# Altium footprint library MOD_LAUNCHXL-F28379D.PcbLib: 1 footprints
Each footprint in its own frame and in the unit in brackets; x right, y up, seen from the top. Pads: shape width x height; smd on the part's side, far side on the other; paste and mask are expansions set on the pad; w line width, h text height; cw(c..) or ccw(c..) is an arc to the next point about the centre after c.
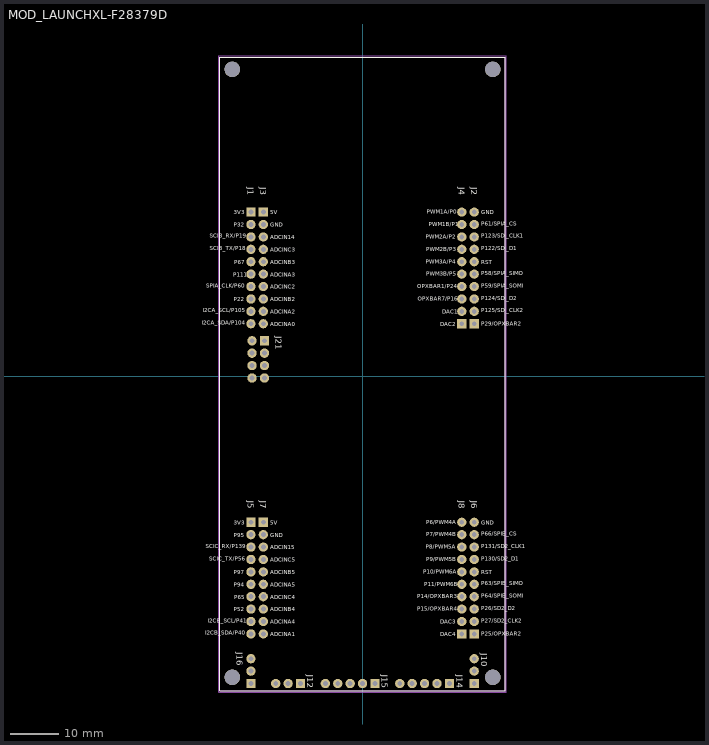
[diagram p0: the footprint, top view; thin cyan lines are the x and y axes]

## MOD_LAUNCHXL-F28379D [mm]
pads (111):
  rect 1.9x1.9 hole 1: J1_1(-22.86,33.655) J2_1(22.86,10.795) J3_1(-20.32,33.655) J4_1(20.32,10.795) J5_1(-22.86,-29.845) J6_1(22.86,-52.705) J7_1(-20.32,-29.845) J8_1(20.32,-52.705) J10_1(22.86,-62.865) J12_1(-12.7,-62.865) J14_1(17.78,-62.865) J15_1(2.54,-62.865) J16_1(-22.86,-62.865) J21_1(-20.086,7.311)
  round 1.9 hole 1: J1_2(-22.86,31.115) J1_3(-22.86,28.575) J1_4(-22.86,26.035) J1_5(-22.86,23.495) J1_6(-22.86,20.955) J1_7(-22.86,18.415) J1_8(-22.86,15.875) J1_9(-22.86,13.335) J1_10(-22.86,10.795) J2_2(22.86,13.335) J2_3(22.86,15.875) J2_4(22.86,18.415) J2_5(22.86,20.955) J2_6(22.86,23.495) J2_7(22.86,26.035) J2_8(22.86,28.575) J2_9(22.86,31.115) J2_10(22.86,33.655) J3_2(-20.32,31.115) J3_3(-20.32,28.575) J3_4(-20.32,26.035) J3_5(-20.32,23.495) J3_6(-20.32,20.955) J3_7(-20.32,18.415) J3_8(-20.32,15.875) J3_9(-20.32,13.335) J3_10(-20.32,10.795) J4_2(20.32,13.335) J4_3(20.32,15.875) J4_4(20.32,18.415) J4_5(20.32,20.955) J4_6(20.32,23.495) J4_7(20.32,26.035) J4_8(20.32,28.575) J4_9(20.32,31.115) J4_10(20.32,33.655) J5_2(-22.86,-32.385) J5_3(-22.86,-34.925) J5_4(-22.86,-37.465) J5_5(-22.86,-40.005) J5_6(-22.86,-42.545) J5_7(-22.86,-45.085) J5_8(-22.86,-47.625) J5_9(-22.86,-50.165) J5_10(-22.86,-52.705) J6_2(22.86,-50.165) J6_3(22.86,-47.625) J6_4(22.86,-45.085) J6_5(22.86,-42.545) J6_6(22.86,-40.005) J6_7(22.86,-37.465) J6_8(22.86,-34.925) J6_9(22.86,-32.385) J6_10(22.86,-29.845) J7_2(-20.32,-32.385) J7_3(-20.32,-34.925) J7_4(-20.32,-37.465) J7_5(-20.32,-40.005) J7_6(-20.32,-42.545) J7_7(-20.32,-45.085) J7_8(-20.32,-47.625) J7_9(-20.32,-50.165) J7_10(-20.32,-52.705) J8_2(20.32,-50.165) J8_3(20.32,-47.625) J8_4(20.32,-45.085) J8_5(20.32,-42.545) J8_6(20.32,-40.005) J8_7(20.32,-37.465) J8_8(20.32,-34.925) J8_9(20.32,-32.385) J8_10(20.32,-29.845) J10_2(22.86,-60.325) J10_3(22.86,-57.785) J12_2(-15.24,-62.865) J12_3(-17.78,-62.865) J14_2(15.24,-62.865) J14_3(12.7,-62.865) J14_4(10.16,-62.865) J14_5(7.62,-62.865) J15_2(0,-62.865) J15_3(-2.54,-62.865) J15_4(-5.08,-62.865) J15_5(-7.62,-62.865) J16_2(-22.86,-60.325) J16_3(-22.86,-57.785) J21_2(-22.626,7.311) J21_3(-20.086,4.771) J21_4(-22.626,4.771) J21_5(-20.086,2.231) J21_6(-22.626,2.231) J21_7(-20.086,-0.309) J21_8(-22.626,-0.309)
  round 3.175 hole 3.175 unplated: ""(-26.67,-61.595) ""(-26.67,62.865) ""(26.67,-61.595) ""(26.67,62.865)
Top Overlay:
  lines w0.127: -29.21,-64.389 29.21,-64.389 29.21,65.405 -29.21,65.405 -29.21,-64.389
  text "J16" at -25.748,-56.42 h1.27
  text "J12" at -11.335,-61.12 h1.27
  text "J15" at 3.905,-61.12 h1.27
  text "J14" at 19.305,-61.07 h1.27
  text "J10" at 24.305,-56.67 h1.27
  text "DAC2" at 15.953,10.31 h0.8
  text "P25/OPXBAR2" at 24.28,-53.076 h0.8
  text "DAC4" at 15.915,-53.19 h0.8
  text "P27/SD2_CLK2" at 24.28,-50.383 h0.8
  text "DAC3" at 15.953,-50.65 h0.8
  text "P26/SD2_D2" at 24.28,-47.843 h0.8
  text "P15/OPXBAR4" at 11.181,-47.996 h0.8
  text "P64/SPIB_SOMI" at 24.28,-45.303 h0.8
  text "P14/OPXBAR3" at 11.219,-45.456 h0.8
  text "P63/SPIB_SIMO" at 24.28,-42.763 h0.8
  text "P11/PWM6B" at 12.644,-42.916 h0.8
  text "RST" at 24.28,-40.49 h0.8
  text "P10/PWM6A" at 12.442,-40.376 h0.8
  text "P130/SD2_D1" at 24.28,-37.683 h0.8
  text "P9/PWM5B" at 13.063,-37.836 h0.8
  text "P131/SD2_CLK1" at 24.28,-35.143 h0.8
  text "P8/PWM5A" at 12.986,-35.296 h0.8
  text "P66/SPIB_CS" at 24.28,-32.603 h0.8
  text "P7/PWM4B" at 13.063,-32.756 h0.8
  text "GND" at 24.28,-30.33 h0.8
  text "P6/PWM4A" at 13.028,-30.216 h0.8
  text "P29/OPXBAR2" at 24.28,10.424 h0.8
  text "P125/SDI_CLK2" at 24.28,13.117 h0.8
  text "P124/SDI_D2" at 24.28,15.657 h0.8
  text "P59/SPIA_SOMI" at 24.28,18.197 h0.8
  text "P58/SPIA_SIMO" at 24.28,20.737 h0.8
  text "RST" at 24.28,23.01 h0.8
  text "PWM3A/P4" at 12.941,23.124 h0.8
  text "P122/SDI_D1" at 24.28,25.817 h0.8
  text "PWM2B/P3" at 13.063,25.664 h0.8
  text "P123/SDI_CLK1" at 24.28,28.357 h0.8
  text "PWM2A/P2" at 12.979,28.204 h0.8
  text "P61/SPIA_CS" at 24.28,30.897 h0.8
  text "PWM1B/P1" at 13.531,30.744 h0.8
  text "GND" at 24.28,33.17 h0.8
  text "PWM1A/P0" at 13.104,33.284 h0.8
  text "ADCINA1" at -18.9,-53.19 h0.8
  text "I2CB_SDA/P40" at -32.254,-52.923 h0.8
  text "ADCINA4" at -18.9,-50.65 h0.8
  text "I2CB_SCL/P41" at -31.744,-50.383 h0.8
  text "ADCINB4" at -18.9,-48.11 h0.8
  text "P52" at -26.347,-48.11 h0.8
  text "ADCINC4" at -18.9,-45.57 h0.8
  text "P65" at -26.305,-45.57 h0.8
  text "ADCINA5" at -18.9,-43.03 h0.8
  text "P94" at -26.385,-43.03 h0.8
  text "ADCINB5" at -18.9,-40.49 h0.8
  text "P97" at -26.347,-40.49 h0.8
  text "ADCINC5" at -18.9,-37.95 h0.8
  text "SCIC_TX/P56" at -31.42,-37.683 h0.8
  text "ADCIN15" at -18.9,-35.41 h0.8
  text "SCIC_RX/P139" at -32.09,-35.143 h0.8
  text "GND" at -18.9,-32.87 h0.8
  text "P95" at -26.347,-32.87 h0.8
  text "5V" at -18.9,-30.33 h0.8
  text "3V3" at -26.347,-30.33 h0.8
  text "ADCINA0" at -18.9,10.31 h0.8
  text "I2CA_SDA/P104" at -32.963,10.577 h0.8
  text "ADCINA2" at -18.9,12.85 h0.8
  text "I2CA_SCL/P105" at -32.757,13.117 h0.8
  text "ADCINB2" at -18.9,15.39 h0.8
  text "P22" at -26.347,15.39 h0.8
  text "ADCINC2" at -18.9,17.93 h0.8
  text "SPIA_CLK/P60" at -32.045,18.197 h0.8
  text "ADCINA3" at -18.9,20.47 h0.8
  text "P111" at -26.465,20.47 h0.8
  text "ADCINB3" at -18.9,23.01 h0.8
  text "P67" at -26.305,23.01 h0.8
  text "ADCINC3" at -18.9,25.55 h0.8
  text "SCIB_TX/P18" at -31.249,25.817 h0.8
  text "ADCIN14" at -18.9,28.09 h0.8
  text "SCIB_RX/P19" at -31.294,28.357 h0.8
  text "GND" at -18.9,30.63 h0.8
  text "P32" at -26.347,30.63 h0.8
  text "J1" at -23.495,38.735 h1.27
  text "J3" at -20.955,38.735 h1.27
  text "J2" at 22.225,38.735 h1.27
  text "J4" at 19.685,38.735 h1.27
  text "J6" at 22.225,-25.4 h1.27
  text "J8" at 19.685,-25.4 h1.27
  text "J7" at -20.955,-25.4 h1.27
  text "J5" at -23.495,-25.4 h1.27
  text "J21" at -17.78,8.255 h1.27
  text "5V" at -18.9,33.17 h0.8
  text "3V3" at -26.347,33.17 h0.8
  text "DAC1" at 16.296,12.85 h0.8
  text "OPXBAR7/P16" at 11.257,15.504 h0.8
  text "OPXBAR1/P24" at 11.181,18.044 h0.8
  text "PWM3B/P5" at 13.063,20.584 h0.8
Mechanical 13:
  lines w0.127: -29.21,-64.389 -29.21,65.405 29.21,65.405 29.21,-64.389 -29.21,-64.389
Mechanical 15:
  lines w0.05: -29.46,-64.639 -29.46,65.655 29.46,65.655 29.46,-64.639 -29.46,-64.639
3D body "Header 5x2 vert 0.1 inch pitch thru.step": height 8.61, standoff -2.64, extent -24,-41.275 -19.18,-28.575
3D body "Header 5x2 vert 0.1 inch pitch thru.step": height 8.61, standoff -2.64, extent -24,-53.975 -19.18,-41.275
3D body "Header 5x2 vert 0.1 inch pitch thru.step": height 8.61, standoff -2.64, extent 19.18,-41.275 24,-28.575
3D body "Header 5x2 vert 0.1 inch pitch thru.step": height 8.61, standoff -2.64, extent 19.18,-53.975 24,-41.275
3D body "Header 5x2 vert 0.1 inch pitch thru.step": height 8.61, standoff -2.64, extent 19.18,9.525 24,22.225
3D body "Header 5x2 vert 0.1 inch pitch thru.step": height 8.61, standoff -2.64, extent 19.18,22.225 24,34.925
3D body "Header 5x2 vert 0.1 inch pitch thru.step": height 8.61, standoff -2.64, extent -24,9.525 -19.18,22.225
3D body "Header 5x2 vert 0.1 inch pitch thru.step": height 8.61, standoff -2.64, extent -24,22.225 -19.18,34.925